# Altium schematic symbol library TPS799.SchLib: 1 symbol
Pins are listed as number, name and electrical type; pins without a type are passive.

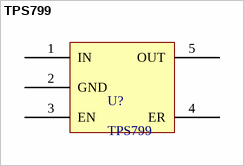
[diagram p0: symbol TPS799]

## TPS799
designator U?
footprint SOP5
pins: 1 IN, 2 GND, 3 EN, 4 ER, 5 OUT